# EAGLE library part TI-MSP430FR2422IRHL (library EagleLibrary)
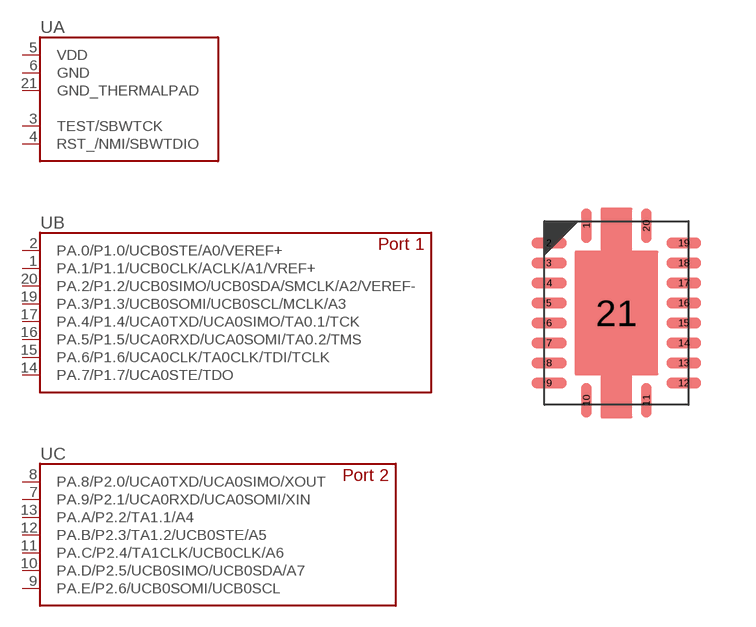
[diagram p41: symbol with the pads of TI-MSP430FR2422IRHL; footprint TI-MSP430FR2422IRHL]

Designator prefix U; gates A=TI-MSP430FR2422IRHL-A B=TI-MSP430FR2422IRHL-B C=TI-MSP430FR2422IRHL-C

## TI-MSP430FR2422IRHL (MFG: Texas Instruments; PN: MSP430FR2422IRHL)  [TI-MSP430FR2422IRHL]
1  B:PA.1/P1.1/UCB0CLK/ACLK/A1/VREF+
2  B:PA.0/P1.0/UCB0STE/A0/VEREF+
3  A:TEST/SBWTCK
4  A:RST_/NMI/SBWTDIO
5  A:VDD
6  A:GND
7  C:PA.9/P2.1/UCA0RXD/UCA0SOMI/XIN
8  C:PA.8/P2.0/UCA0TXD/UCA0SIMO/XOUT
9  C:PA.E/P2.6/UCB0SOMI/UCB0SCL
10  C:PA.D/P2.5/UCB0SIMO/UCB0SDA/A7
11  C:PA.C/P2.4/TA1CLK/UCB0CLK/A6
12  C:PA.B/P2.3/TA1.2/UCB0STE/A5
13  C:PA.A/P2.2/TA1.1/A4
14  B:PA.7/P1.7/UCA0STE/TDO
15  B:PA.6/P1.6/UCA0CLK/TA0CLK/TDI/TCLK
16  B:PA.5/P1.5/UCA0RXD/UCA0SOMI/TA0.2/TMS
17  B:PA.4/P1.4/UCA0TXD/UCA0SIMO/TA0.1/TCK
19  B:PA.3/P1.3/UCB0SOMI/UCB0SCL/MCLK/A3
20  B:PA.2/P1.2/UCB0SIMO/UCB0SDA/SMCLK/A2/VEREF-
21  A:GND_THERMALPAD

## Footprint TI-MSP430FR2422IRHL (pad centres in mm)
20-QFN, 0.50 mm pitch, 4.50 X 3.50 X 1.00 mm body, 3.05 X 2.05 mm thermal pad 20-pin QFN package with 0.50 mm pitch with body size 4.50 X 3.50 X 1.00 mm and thermal pad size 3.05 X 2.05 mm
smd 0.26 x 0.86: 1 -0.75,2.185; 10 -0.75,-2.185; 11 0.75,-2.185; 20 0.75,2.185
smd 0.86 x 0.26: 2 -1.685,1.75; 3 -1.685,1.25; 4 -1.685,0.75; 5 -1.685,0.25; 6 -1.685,-0.25; 7 -1.685,-0.75; 8 -1.685,-1.25; 9 -1.685,-1.75; 12 1.685,-1.75; 13 1.685,-1.25; 14 1.685,-0.75; 15 1.685,-0.25; 16 1.685,0.25; 17 1.685,0.75; 18 1.685,1.25; 19 1.685,1.75
smd 1 x 1: 21 0,0